# Altium footprint library GD32H759IMT6 V12.PcbLib: 25 footprints (part 1 of 2)
Each footprint in its own frame and in the unit in brackets; x right, y up, seen from the top. Pads: shape width x height; smd on the part's side, far side on the other; paste and mask are expansions set on the pad; w line width, h text height; cw(c..) or ccw(c..) is an arc to the next point about the centre after c.
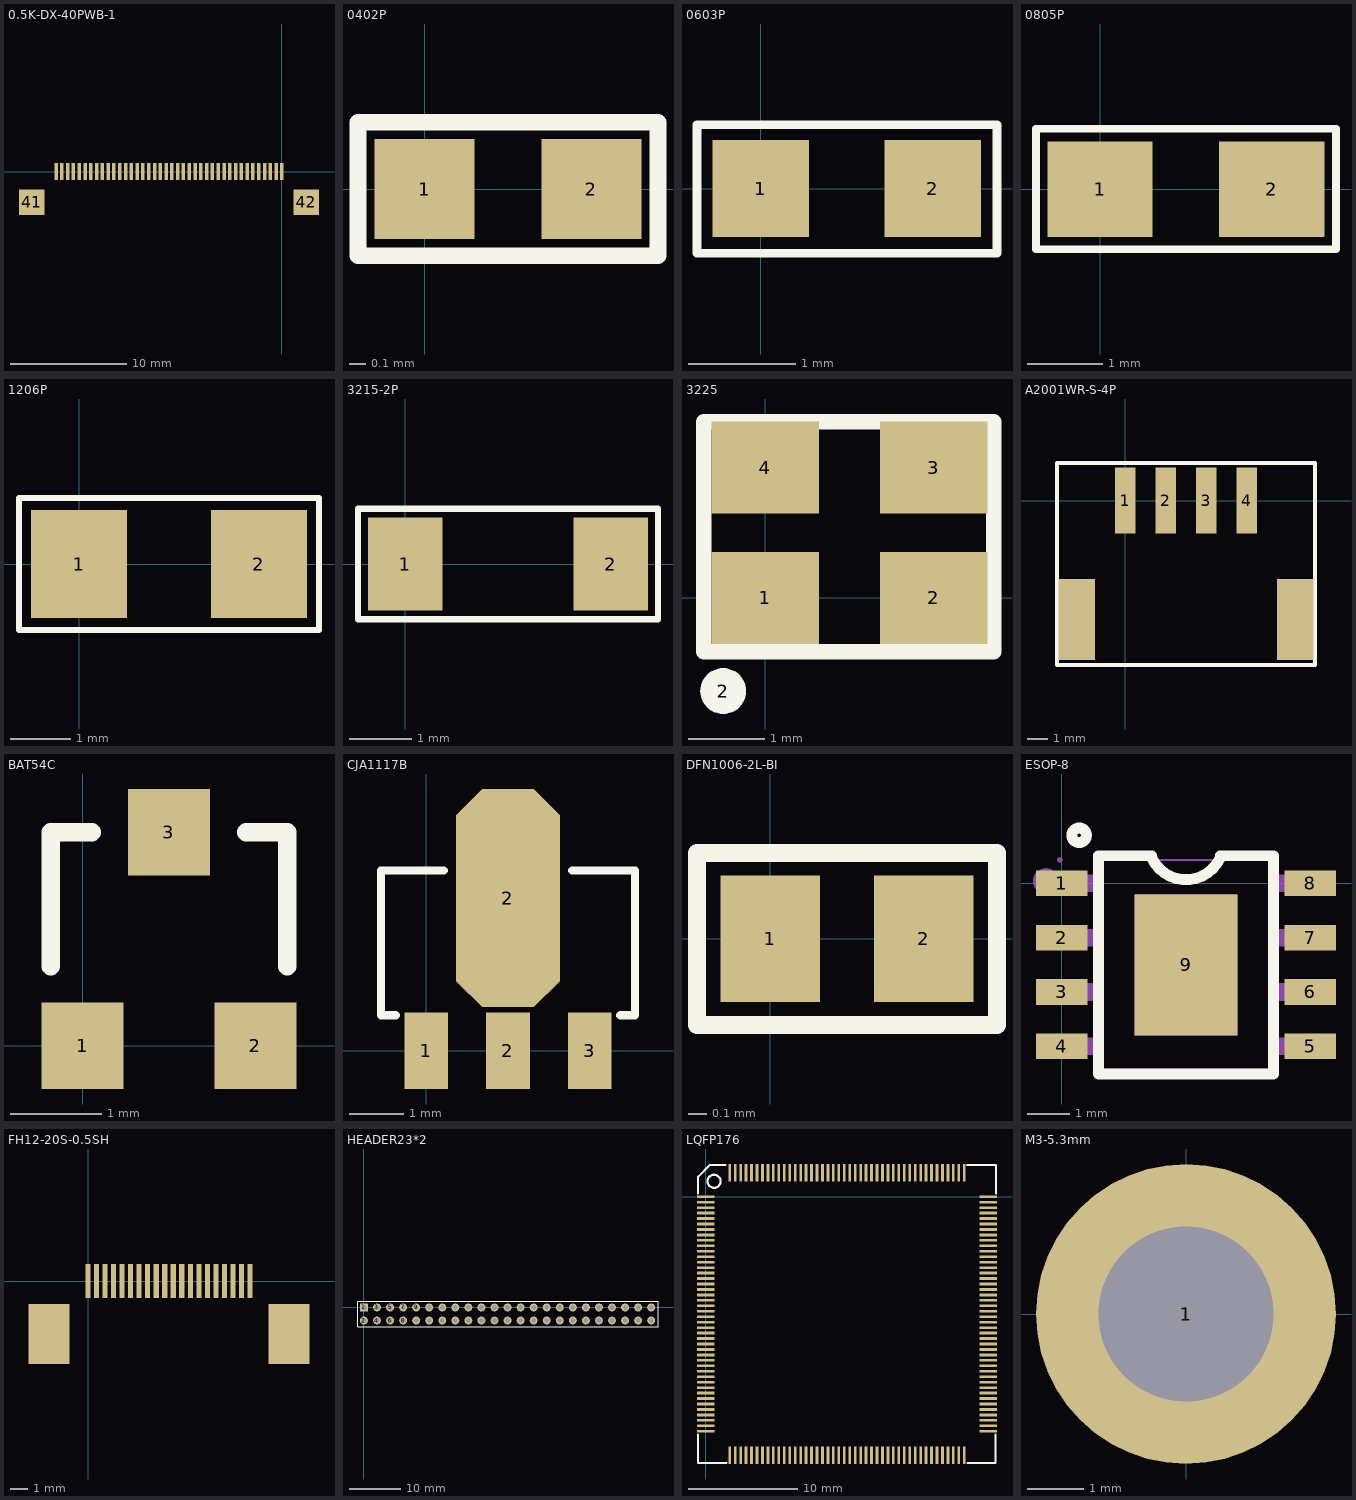
[diagram p0: the footprints below, top view; thin cyan lines are the x and y axes]

## 0.5K-DX-40PWB-1 [mm]
pads (42):
  rect 0.3x1.45 smd: 1(0,0) 2(-0.5,0) 3(-1,0) 4(-1.5,0) 5(-2,0) 6(-2.5,0) 7(-3,0) 8(-3.5,0) 9(-4,0) 10(-4.5,0) 11(-5,0) 12(-5.5,0) 13(-6,0) 14(-6.5,0) 15(-7,0) 16(-7.5,0) 17(-8,0) 18(-8.5,0) 19(-9,0) 20(-9.5,0) 21(-10,0) 22(-10.5,0) 23(-11,0) 24(-11.5,0) 25(-12,0) 26(-12.5,0) 27(-13,0) 28(-13.5,0) 29(-14,0) 30(-14.5,0) 31(-15,0) 32(-15.5,0) 33(-16,0) 34(-16.5,0) 35(-17,0) 36(-17.5,0) 37(-18,0) 38(-18.5,0) 39(-19,0) 40(-19.5,0)
  rect 2.2x2.2 smd: 41(-21.6,-2.63) 42(2.1,-2.63)

## 0402P [mm]
pads (2):
  rect 0.6x0.6 smd: 1(0,0) 2(1,0)
Top Overlay:
  lines w0.1: -0.4,-0.4 -0.4,0.4 1.4,0.4 1.4,-0.4 -0.4,-0.4

## 0603P [mm]
pads (2):
  rect 0.9x0.9 smd: 1(0,0) 2(1.6,0)
Top Overlay:
  lines w0.08: -0.596,-0.603 -0.596,0.595 2.199,0.595 2.199,-0.603 -0.596,-0.603

## 0805P [mm]
pads (2):
  rect 1.4x1.27 smd: 1(0,0) 2(2.286,0)
Top Overlay:
  lines w0.1: -0.853,-0.798 -0.853,0.802 3.141,0.802 3.141,-0.798 -0.853,-0.798

## 1206P [mm]
pads (2):
  rect 1.6x1.8 smd: 1(0,0) 2(3,0)
Top Overlay:
  lines w0.1: -1,-1.1 4,-1.1 4,1.1 -1,1.1 -1,-1.1

## 3215-2P [mm]
pads (2):
  rect 1.2x1.5 smd: 1(0,0) 2(3.3,0)
Top Overlay:
  lines w0.1: -0.763,-0.889 -0.763,0.889 4.063,0.889 4.063,-0.889 -0.763,-0.889
3D body: height 0.61, standoff -0.01, extent 0.05,-0.75 3.25,0.75

## 3225 [mm]
pads (5):
  rect 1.4x1.2 smd: 1(0,0) 2(2.2,0) 3(2.2,1.7) 4(0,1.7)
  round 0.6 on Top Overlay: 2(-0.549,-1.216)
Top Overlay:
  lines w0.2: -0.801,-0.702 2.984,-0.702 2.984,2.297 -0.801,2.297 -0.801,-0.702

## A2001WR-S-4P [mm]
pads (6):
  rect 1x3.25 smd: 1(0,0) 2(2,0) 3(4,0) 4(6,0)
  rect 1.8x4 smd: ""(-2.4,-5.875) ""(8.4,-5.875)
Top Overlay:
  lines w0.2: -3.366,-8.105 9.372,-8.105 9.372,1.847 -3.366,1.847 -3.366,-8.105

## BAT54C [mm]
pads (3):
  rect 0.9x0.95 smd: 1(0,0) 2(1.9,0) 3(0.95,2.35)
Top Overlay:
  lines w0.2: -0.35,0.875 -0.35,2.35 0.1,2.35 ; 1.8,2.35 2.25,2.35 2.25,0.875

## CJA1117B [mm]
pads (4):
  rect 0.8x1.4 smd: 1(0,0) 2(1.5,0) 3(3,0)
  oct 1.9x4 smd: 2(1.5,2.8)
Top Overlay:
  lines w0.15: -0.558,0.654 -0.826,0.654 -0.826,3.306 0.323,3.306 ; 2.677,3.306 3.826,3.306 3.826,0.654 3.558,0.654 3.558,0.65

## DFN1006-2L-BI [mm]
pads (2):
  rect 0.55x0.7 smd: 1(0,0) 2(0.85,0)
Top Overlay:
  lines w0.1: -0.355,-0.479 -0.34,-0.479 ; -0.34,-0.479 0.924,-0.479 1.1,-0.479 1.255,-0.479 1.255,-0.016 1.255,0.476 1.1,0.476 0.802,0.476 -0.355,0.476 -0.406,0.476 -0.406,-0.13 -0.406,-0.479 -0.34,-0.479

## ESOP-8 [mm]
pads (9):
  rect 1.2x0.6 smd: 1(0,0) 2(0,-1.27) 3(0,-2.54) 4(0,-3.81) 5(5.817,-3.81) 6(5.817,-2.54) 7(5.817,-1.27) 8(5.817,0)
  rect 2.4x3.3 smd: 9(2.908,-1.905)
Top Overlay:
  circle w0.254: c0.408,1.125 r0.17
  lines w0.254: 2.108,0.595 ccw(c2.908,0.97) 3.708,0.595 ; 2.108,0.645 0.858,0.645 0.858,-4.455 4.958,-4.455 4.958,0.645 3.708,0.645
Mechanical 6:
  circle w0.3: c-0.372,0.055 r0.15
Mechanical 15:
  region: -0.042,0.485 0.003,0.503 0.022,0.549 0.003,0.595 -0.042,0.614 -0.042,0.613 -0.086,0.595 -0.105,0.549 -0.086,0.503
  region: 4.848,0.2 5.218,0.2 5.218,-0.2 4.848,-0.2
  region: 5.208,0.2 5.858,0.2 5.858,-0.2 5.208,-0.2
  region: 4.848,-1.07 5.218,-1.07 5.218,-1.47 4.848,-1.47
  region: 5.208,-1.07 5.858,-1.07 5.858,-1.47 5.208,-1.47
  region: 4.848,-2.34 5.218,-2.34 5.218,-2.74 4.848,-2.74
  region: 5.208,-2.34 5.858,-2.34 5.858,-2.74 5.208,-2.74
  region: 4.848,-3.61 5.218,-3.61 5.218,-4.01 4.848,-4.01
  region: 5.208,-3.61 5.858,-3.61 5.858,-4.01 5.208,-4.01
  region: 0.598,0.2 0.968,0.2 0.968,-0.2 0.598,-0.2
  region: -0.042,0.2 0.608,0.2 0.608,-0.2 -0.042,-0.2
  region: 0.598,-1.07 0.968,-1.07 0.968,-1.47 0.598,-1.47
  region: -0.042,-1.07 0.608,-1.07 0.608,-1.47 -0.042,-1.47
  region: 0.598,-2.34 0.968,-2.34 0.968,-2.74 0.598,-2.74
  region: -0.042,-2.34 0.608,-2.34 0.608,-2.74 -0.042,-2.74
  region: 0.598,-3.61 0.968,-3.61 0.968,-4.01 0.598,-4.01
  region: -0.042,-3.61 0.608,-3.61 0.608,-4.01 -0.042,-4.01
  region: 1.708,-3.555 1.708,-0.255 4.108,-0.255 4.108,-3.555
  lines w0.051: 0.958,-4.355 4.858,-4.355 4.858,0.545 0.958,0.545 0.958,-4.355

## FH12-20S-0.5SH [mm]
pads (22):
  rect 0.3x2 smd: 1(0,0) 2(0.5,0) 3(1,0) 4(1.5,0) 5(2,0) 6(2.5,0) 7(3,0) 8(3.5,0) 9(4,0) 10(4.5,0) 11(5,0) 12(5.5,0) 13(6,0) 14(6.5,0) 15(7,0) 16(7.5,0) 17(8,0) 18(8.5,0) 19(9,0) 20(9.5,0)
  rect 2.4x3.5 smd: ""(-2.3,-3.1) ""(11.8,-3.1)

## HEADER23*2 [mm]
pads (46):
  rect 1.55x1.55 hole 0.9: 1(0,0)
  round 1.55 hole 0.9: 2(0,-2.54) 3(2.54,0) 4(2.54,-2.54) 5(5.08,0) 6(5.08,-2.54) 7(7.62,0) 8(7.62,-2.54) 9(10.16,0) 10(10.16,-2.54) 11(12.7,0) 12(12.7,-2.54) 13(15.24,0) 14(15.24,-2.54) 15(17.78,0) 16(17.78,-2.54) 17(20.32,0) 18(20.32,-2.54) 19(22.86,0) 20(22.86,-2.54) 21(25.4,0) 22(25.4,-2.54) 23(27.94,0) 24(27.94,-2.54) 25(30.48,0) 26(30.48,-2.54) 27(33.02,0) 28(33.02,-2.54) 29(35.56,0) 30(35.56,-2.54) 31(38.1,0) 32(38.1,-2.54) 33(40.64,0) 34(40.64,-2.54) 35(43.18,0) 36(43.18,-2.54) 37(45.72,0) 38(45.72,-2.54) 39(48.26,0) 40(48.26,-2.54) 41(50.8,0) 42(50.8,-2.54) 43(53.34,0) 44(53.34,-2.54) 45(55.88,0) 46(55.88,-2.54)
Top Overlay:
  lines w0.2: -1.156,-3.724 57.208,-3.724 57.208,1.176 -1.156,1.176 -1.156,-3.724

## LQFP176 [mm]
pads (176):
  rect 1.6x0.25 smd: 1(0,0) 2(0,-0.5) 3(0,-1) 4(0,-1.5) 5(0,-2) 6(0,-2.5) 7(0,-3) 8(0,-3.5) 9(0,-4) 10(0,-4.5) 11(0,-5) 12(0,-5.5) 13(0,-6) 14(0,-6.5) 15(0,-7) 16(0,-7.5) 17(0,-8) 18(0,-8.5) 19(0,-9) 20(0,-9.5) 21(0,-10) 22(0,-10.5) 23(0,-11) 24(0,-11.5) 25(0,-12) 26(0,-12.5) 27(0,-13) 28(0,-13.5) 29(0,-14) 30(0,-14.5) 31(0,-15) 32(0,-15.5) 33(0,-16) 34(0,-16.5) 35(0,-17) 36(0,-17.5) 37(0,-18) 38(0,-18.5) 39(0,-19) 40(0,-19.5) 41(0,-20) 42(0,-20.5) 43(0,-21) 44(0,-21.5) 89(25.9,-21.5) 90(25.9,-21) 91(25.9,-20.5) 92(25.9,-20) 93(25.9,-19.5) 94(25.9,-19) 95(25.9,-18.5) 96(25.9,-18) 97(25.9,-17.5) 98(25.9,-17) 99(25.9,-16.5) 100(25.9,-16) 101(25.9,-15.5) 102(25.9,-15) 103(25.9,-14.5) 104(25.9,-14) 105(25.9,-13.5) 106(25.9,-13) 107(25.9,-12.5) 108(25.9,-12) 109(25.9,-11.5) 110(25.9,-11) 111(25.9,-10.5) 112(25.9,-10) 113(25.9,-9.5) 114(25.9,-9) 115(25.9,-8.5) 116(25.9,-8) 117(25.9,-7.5) 118(25.9,-7) 119(25.9,-6.5) 120(25.9,-6) 121(25.9,-5.5) 122(25.9,-5) 123(25.9,-4.5) 124(25.9,-4) 125(25.9,-3.5) 126(25.9,-3) 127(25.9,-2.5) 128(25.9,-2) 129(25.9,-1.5) 130(25.9,-1) 131(25.9,-0.5) 132(25.9,0)
  rect 0.25x1.6 smd: 45(2.2,-23.7) 46(2.7,-23.7) 47(3.2,-23.7) 48(3.7,-23.7) 49(4.2,-23.7) 50(4.7,-23.7) 51(5.2,-23.7) 52(5.7,-23.7) 53(6.2,-23.7) 54(6.7,-23.7) 55(7.2,-23.7) 56(7.7,-23.7) 57(8.2,-23.7) 58(8.7,-23.7) 59(9.2,-23.7) 60(9.7,-23.7) 61(10.2,-23.7) 62(10.7,-23.7) 63(11.2,-23.7) 64(11.7,-23.7) 65(12.2,-23.7) 66(12.7,-23.7) 67(13.2,-23.7) 68(13.7,-23.7) 69(14.2,-23.7) 70(14.7,-23.7) 71(15.2,-23.7) 72(15.7,-23.7) 73(16.2,-23.7) 74(16.7,-23.7) 75(17.2,-23.7) 76(17.7,-23.7) 77(18.2,-23.7) 78(18.7,-23.7) 79(19.2,-23.7) 80(19.7,-23.7) 81(20.2,-23.7) 82(20.7,-23.7) 83(21.2,-23.7) 84(21.7,-23.7) 85(22.2,-23.7) 86(22.7,-23.7) 87(23.2,-23.7) 88(23.7,-23.7) 133(23.7,2.2) 134(23.2,2.2) 135(22.7,2.2) 136(22.2,2.2) 137(21.7,2.2) 138(21.2,2.2) 139(20.7,2.2) 140(20.2,2.2) 141(19.7,2.2) 142(19.2,2.2) 143(18.7,2.2) 144(18.2,2.2) 145(17.7,2.2) 146(17.2,2.2) 147(16.7,2.2) 148(16.2,2.2) 149(15.7,2.2) 150(15.2,2.2) 151(14.7,2.2) 152(14.2,2.2) 153(13.7,2.2) 154(13.2,2.2) 155(12.7,2.2) 156(12.2,2.2) 157(11.7,2.2) 158(11.2,2.2) 159(10.7,2.2) 160(10.2,2.2) 161(9.7,2.2) 162(9.2,2.2) 163(8.7,2.2) 164(8.2,2.2) 165(7.7,2.2) 166(7.2,2.2) 167(6.7,2.2) 168(6.2,2.2) 169(5.7,2.2) 170(5.2,2.2) 171(4.7,2.2) 172(4.2,2.2) 173(3.7,2.2) 174(3.2,2.2) 175(2.7,2.2) 176(2.2,2.2)
Top Overlay:
  circle w0.2: c0.762,1.414 r0.6
  lines w0.2: -0.702,-21.788 -0.702,-24.401 1.902,-24.401 ; -0.696,0.301 -0.699,0.304 -0.699,1.832 0.376,2.907 1.805,2.907 ; 23.965,2.901 26.597,2.901 26.597,0.295 ; 23.998,-24.398 26.576,-24.398 26.576,-21.789

## M3-5.3mm [mm]
pads (1):
  round 5.3 hole 3.1: 1(0,0)